# Altium footprint library Leo_Integrated_PCBLibrary.PcbLib: 25 footprints (part 2 of 2)
Each footprint in its own frame and in the unit in brackets; x right, y up, seen from the top. Pads: shape width x height; smd on the part's side, far side on the other; paste and mask are expansions set on the pad; w line width, h text height; cw(c..) or ccw(c..) is an arc to the next point about the centre after c.
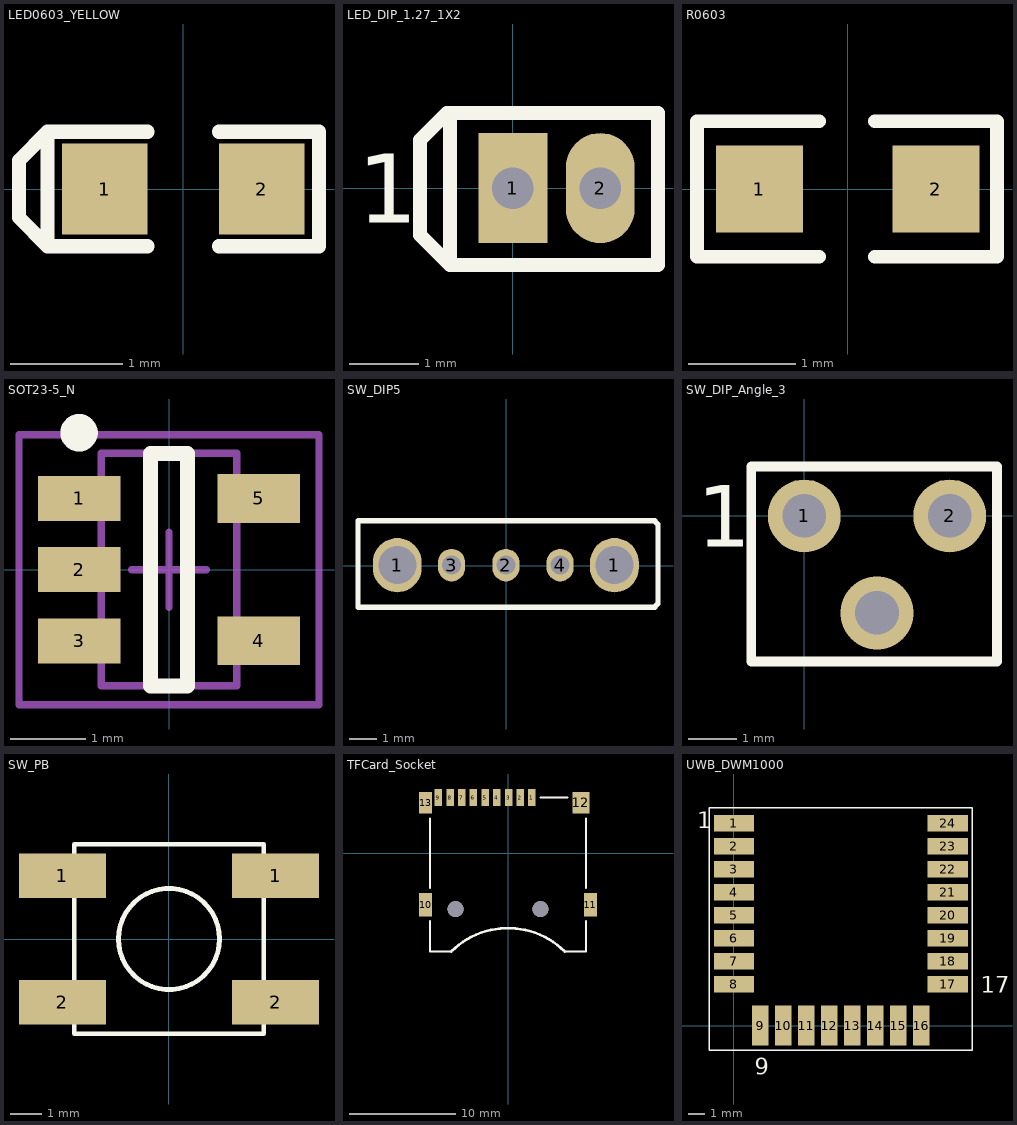
[diagram p1: the footprints below, top view; thin cyan lines are the x and y axes]

## LED0603_YELLOW [mil] "SMD Super Bright LED, YELLOW"
height 23.62
pads (2):
  rect 30x32 smd: 1(-27.5,0) 2(27.5,0)
Top Overlay:
  lines w5: -12.5,-20 -47.5,-20 ; -12.5,20 -47.5,20 ; 12.5,-20 47.5,-20 47.5,20 12.5,20 ; -47.5,-20 -57.5,-10 -57.5,10 -47.5,20 ; -47.5,-20 -47.5,20
3D body "User Library-led_0603_yellow.step": height 23.62, standoff 0, extent -31.89,-15.74 31.89,15.75

## LED_DIP_1.27_1X2 [mm] "Connector; Header; 2 Position"
pads (2):
  rect 1x1.6 hole 0.6: 1(0,0)
  oval 1x1.6 hole 0.6: 2(1.27,0)
Top Overlay:
  lines w0.1: -0.958,1.092 -0.914,1.092
  lines w0.2: -0.958,1.092 -1.35,0.7 -1.35,-0.682 -0.914,-1.118 ; -0.914,-1.118 2.108,-1.118 2.108,1.092 -0.914,1.092 -0.914,-1.118
  text "1" at -2.25,-0.5 h1

## R0603 [mil] "Chip Resistor; Body 1.6 x 0.8 mm (LxW typ)"
pads (2):
  rect 32x32 smd: 1(-32.5,0) 2(32.5,0)
Top Overlay:
  lines w5: -10.5,-25 -55.5,-25 -55.5,25 -10.5,25 ; 10,-25 55,-25 55,25 10,25
3D body "User Library-SMD RESISTOR 0603.step": height 18.86, standoff 1.14, extent -31.5,-15.74 31.49,15.75

## SOT23-5_N [mm] "SOT23, 5-Leads, Body 2.9x1.6mm, Pitch 0.95mm, Lead Span 2.8mm, IPC Medium Density"
height 1.45
pads (5):
  rect 1.1x0.6 smd: 1(-1.2,0.95) 2(-1.2,0) 3(-1.2,-0.95)
  rect 1.1x0.65 smd: 4(1.2,-0.95) 5(1.2,0.95)
Top Overlay:
  circle w0.25: c-1.2,1.825 r0.125
  lines w0.2: -0.25,-1.55 -0.25,1.55 0.25,1.55 0.25,-1.55 -0.25,-1.55
Mechanical 13:
  lines w0.1: -0.9,-1.55 0.9,-1.55 0.9,1.55 -0.9,1.55 -0.9,-1.55
Mechanical 15:
  lines w0.1: -0.5,0 0.5,0 ; 0,-0.5 0,0.5 ; -2,-1.8 2,-1.8 2,1.8 -2,1.8 -2,-1.8
3D body: height 1.45, standoff 0, extent -0.9,-1.55 0.9,1.55

## SW_DIP5 [mm]
pads (5):
  oval 1.8x2 hole 1.4: 1(-4.015,0.022) 1(3.985,0.022)
  oval 1x1.2 hole 0.7: 2(-0.015,0.022) 3(-2.015,0.022) 4(1.985,0.022)
Top Overlay:
  lines w0.2: -5.461,-1.524 5.461,-1.524 5.588,-1.397 5.588,1.524 5.461,1.651 -5.461,1.651 -5.461,-1.524
3D body: height 6.86, standoff 0, extent -5.182,-1.27 5.334,1.397

## SW_DIP_Angle_3 [mm] "Switch;3DIP;Angle"
height 4.5
pads (2):
  round 1.5 hole 0.9: 1(0,0) 2(3,0)
via 1.5,-2 diameter 1.5 hole 0.9
Top Overlay:
  lines w0.2: -1.092,-3 3.975,-3 3.975,1.016 -1.092,1.016 -1.092,-3
  text "1" at -2.21,-0.635 h1.27

## SW_PB [mm] "6.2?.5mm TACT Switch, without ground connector"
height 2.5
pads (4):
  rect 2.75x1.4 smd: 1(-3.375,2) 1(3.375,2) 2(-3.375,-2) 2(3.375,-2)
Top Overlay:
  circle w0.152: c0,0 r1.601
  lines w0.152: -3,-3 -3,3 3,3 3,-3 -3,-3
3D body "Switch tact 6x6mm.stp": height 3.1, standoff 0, extent -4,-3 4,3.3

## TFCard_Socket [mm] "TFCard_Socket"
height 1.6
pads (15):
  rect 0.7x1.6 smd: 1(2.25,5.25) 2(1.15,5.25) 3(0.05,5.25) 4(-1.05,5.25) 5(-2.15,5.25) 6(-3.25,5.25) 7(-4.35,5.25) 8(-5.45,5.25) 9(-6.55,5.25)
  rect 1.2x2.2 smd: 10(-7.75,-4.85) 11(7.75,-4.85)
  rect 1.6x2 smd: 12(6.85,4.75)
  rect 1.2x2 smd: 13(-7.75,4.75)
  round 1.5 hole 1.5 unplated: ""(-4.93,-5.25)
  round 1.5 hole 1.5: ""(3.05,-5.25)
Top Overlay:
  lines w0.2: -7.35,-6.35 -7.35,-9.25 -5.35,-9.25 ; -7.35,-3.25 -7.35,3.25 ; 3.07,5.25 5.57,5.25 ; 5.35,-9.25 7.35,-9.25 7.35,-6.35 ; 7.35,-3.25 7.35,3.25
  lines w0.254: -5.35,-9.25 cw(c0,-14.6) 5.35,-9.25
3D body "User Library-Socket-MicroSD-Type1-with-SDCard.step": height 1.91, standoff -0.43, extent -6.963,-15.012 7.137,5.088

## UWB_DWM1000 [mm]
pads (24):
  rect 2.45x1 smd: 1(0,12.3) 2(0,10.9) 3(0,9.5) 4(0,8.1) 5(0,6.7) 6(0,5.3) 7(0,3.9) 8(0,2.5) 17(13,2.5) 18(13,3.9) 19(13,5.3) 20(13,6.7) 21(13,8.1) 22(13,9.5) 23(13,10.9) 24(13,12.3)
  rect 1x2.45 smd: 9(1.6,0) 10(3,0) 11(4.4,0) 12(5.8,0) 13(7.2,0) 14(8.6,0) 15(10,0) 16(11.4,0)
Top Overlay:
  lines w0.1: -1.5,-1.5 -1.5,13.25 14.5,13.25 14.5,-1.5 -1.5,-1.5
  text "17" at 15,2 h1
  text "9" at 1.25,-3 h1
  text "1" at -2.25,12 h1
3D body "UWB_DWM1000.STEP": height 3, standoff 0.1, extent 0,0 13,23